# Altium schematic symbol library mpu60x0.SchLib: 1 symbol
Pins are listed as number, name and electrical type; pins without a type are passive.

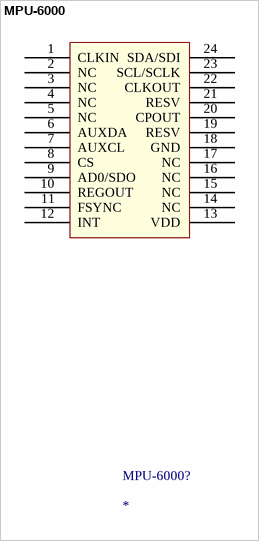
[diagram p0: symbol MPU-6000]

## MPU-6000
designator MPU-6000?
Accelerometer/Gyro
footprint PCBComponent_1
pins: 1 CLKIN, 2 NC, 3 NC, 4 NC, 5 NC, 6 AUXDA, 7 AUXCL, 8 CS, 9 AD0/SDO, 10 REGOUT, 11 FSYNC, 12 INT, 13 VDD, 14 NC, 15 NC, 16 NC, 17 NC, 18 GND, 19 RESV, 20 CPOUT, 21 RESV, 22 CLKOUT, 23 SCL/SCLK, 24 SDA/SDI